# EAGLE library part 750310019 (library Wurth Electronics Midcom Inc V1-0)
Package Style: Non Standard EP7 SMD 3W 3,3V Mounting: SMD Pins: 8 pins Bobbin: 070-4390 Windings Primary: Aux: Secondary: Best pinouts for production vary per application. Please contact Wurth Electronics Midcom, Inc. for assistance with your custom design. Datasheet: 750310019 <http://www.we-online.com/web/en/index.php/show/media/passive_components_-_custom_magnetics/pdf_doc_files/spec_sheets/7503/750310019.pdf> Website: Wurth Electronics Midcom <http://www.we-online.com/midcom> Contact us Wurth Electronics Midcom, Inc. 121 Airport Dr. Watertown, SD 57201 Phone: (605) 886-4385 Fax: (605) 886-4486 E-Mail: midcom@we-online.com
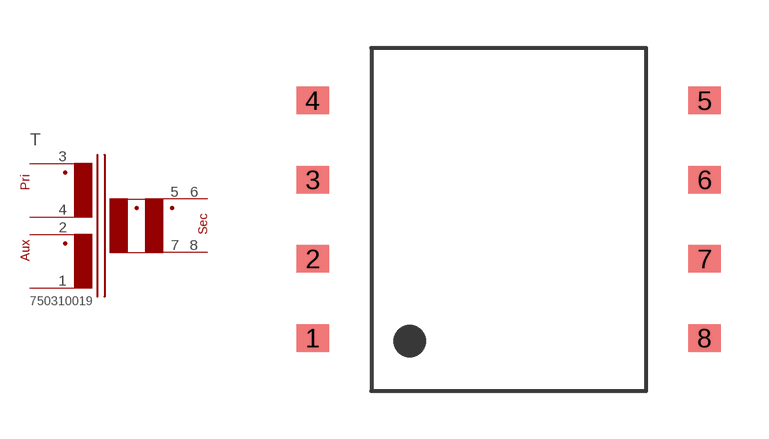
[diagram p2: symbol with the pads of 99NONSTANDARD_EP7_SMD_8PIN_NS; footprint 99NONSTANDARD_EP7_SMD_8PIN_NS]

Designator prefix T

## 750310019  [99NONSTANDARD_EP7_SMD_8PIN_NS]
1  1  pas
2  2  pas
3  4  pas
4  3  pas
5  8  pas
6  5  pas
7  7  pas
8  6  pas

## Footprint 99NONSTANDARD_EP7_SMD_8PIN_NS (pad centres in mm)
Package Style: Speedy EP7 Mounting: SMD Pins: 8 pins Bobbin: 070-4390
smd 1.016 x 0.864: 1 -6.16,-3.734; 2 -6.16,-1.245; 3 -6.16,1.245; 4 -6.16,3.734; 5 6.16,3.734; 6 6.16,1.245; 7 6.16,-1.245; 8 6.16,-3.734